# Altium footprint library Button Switch.PcbLib: 1 footprints
Each footprint in its own frame and in the unit in brackets; x right, y up, seen from the top. Pads: shape width x height; smd on the part's side, far side on the other; paste and mask are expansions set on the pad; w line width, h text height; cw(c..) or ccw(c..) is an arc to the next point about the centre after c.
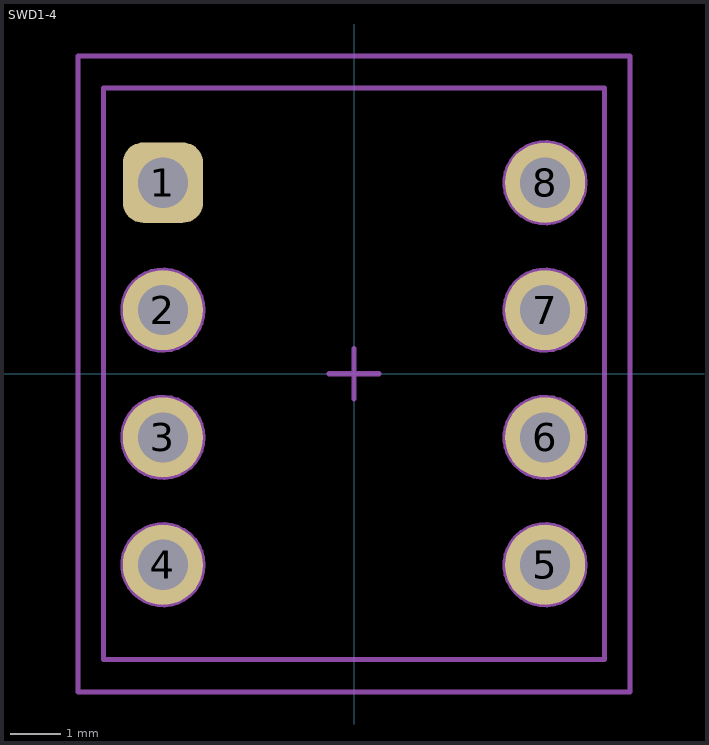
[diagram p0: the footprint, top view; thin cyan lines are the x and y axes]

## SWD1-4 [mm] "DIP Switch SPST x4"
height 6.3
pads (8):
  rrect50% 1.6x1.6 hole 1: 1(-3.81,3.81)
  round 1.6 hole 1: 2(-3.81,1.27) 3(-3.81,-1.27) 4(-3.81,-3.81) 5(3.81,-3.81) 6(3.81,-1.27) 7(3.81,1.27) 8(3.81,3.81)
Mechanical 13:
  lines w0.1: -5,-5.7 -5,5.7 5,5.7 5,-5.7 -5,-5.7
  text "2" at -3.81,1.905 h3
  text "1" at -3.81,4.445 h3
  text "ON" at 2.54,4.445 h3
  text "3" at -3.81,-0.635 h3
  text "4" at -3.81,-3.175 h3
Mechanical 14:
  circle w0.1: c3.81,-3.81 r0.8
  circle w0.1: c-3.81,-3.81 r0.8
  circle w0.1: c3.81,-1.27 r0.8
  circle w0.1: c-3.81,-1.27 r0.8
  circle w0.1: c-3.81,1.27 r0.8
  circle w0.1: c3.81,3.81 r0.8
  circle w0.1: c3.81,1.27 r0.8
  lines w0.1: -4.445,3.175 -4.445,4.445 -3.175,4.445 -3.175,3.175 -4.445,3.175
Mechanical 15:
  lines w0.1: -0.5,0 0.5,0 ; 0,-0.5 0,0.5 ; -5.5,-6.35 5.5,-6.35 5.5,6.34 -5.5,6.34 -5.5,-6.35
3D body: height 5.4, standoff 5.3, extent 0,0.635 2.54,1.905
3D body: height 5.4, standoff 5.3, extent 0,3.175 2.54,4.445
3D body: height 6.3, standoff 5.3, extent -2.54,0.635 0,1.905
3D body: height 6.3, standoff 5.3, extent -2.54,3.175 0,4.445
3D body: height 5.3, standoff 0, extent -5,-5.7 5,5.7
3D body: height 0, standoff -2, extent -3.9,3.54 -3.7,4.14
3D body: height 0, standoff -2, extent 3.7,3.44 3.9,4.04
3D body: height 0, standoff -2, extent -3.9,0.94 -3.7,1.54
3D body: height 0, standoff -2, extent 3.7,0.94 3.9,1.54
3D body: height 6.3, standoff 5.3, extent -2.54,-1.905 0,-0.635
3D body: height 6.3, standoff 5.3, extent -2.54,-4.445 0,-3.175
3D body: height 5.4, standoff 5.3, extent 0,-1.905 2.54,-0.635
3D body: height 5.4, standoff 5.3, extent 0,-4.445 2.54,-3.175
3D body: height 0, standoff -2, extent 3.7,-4.14 3.9,-3.54
3D body: height 0, standoff -2, extent -3.9,-4.14 -3.7,-3.54
3D body: height 0, standoff -2, extent 3.7,-1.64 3.9,-1.04
3D body: height 0, standoff -2, extent -3.9,-1.54 -3.7,-0.94